# EAGLE library part 5036_006_2?_862 (library con-kyocera-elco)
SIM Card Module Source: http://www.kyocera-elco.com/prdct/pdf/5036.pdf
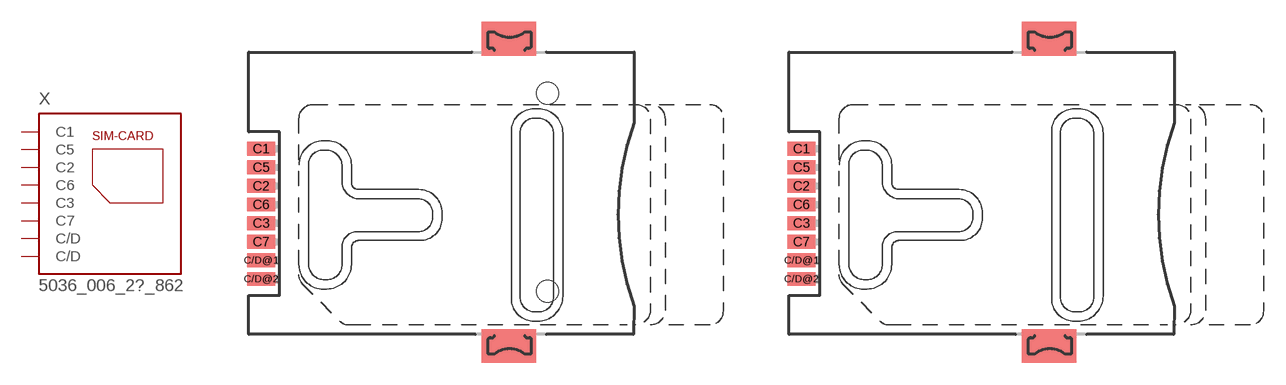
[diagram p1: symbol with the pads of 5036_006_200_862; footprints 5036_006_200_862, 5036_006_201_862]

Designator prefix X

## 5036_006_200_862 (OC_FARNELL: unknown; OC_NEWARK: unknown)  [5036_006_200_862]
C1  C1  pas
C2  C2  pas
C3  C3  pas
C5  C5  pas
C6  C6  pas
C7  C7  pas
C/D@1  C/D  pas
C/D@2  C/D  pas

## 5036_006_201_862 (OC_FARNELL: unknown; OC_NEWARK: unknown)  [5036_006_201_862]
Pads as for 5036_006_200_862

## 5036_006_299_862 (OC_FARNELL: unknown; OC_NEWARK: unknown)  [5036_006_299_862]
Pads as for 5036_006_200_862

## Footprint 5036_006_200_862 (pad centres in mm)
SIM Card Module Source: http://www.kyocera-elco.com/prdct/pdf/5036.pdf
smd 1.9 x 0.95: C1 -19.55,2.98; C2 -19.55,0.44; C3 -19.55,-2.1; C5 -19.55,1.71; C6 -19.55,-0.83; C7 -19.55,-3.37; C/D@1 -19.55,-4.64; C/D@2 -19.55,-5.91
hole 1.5 at 0,6.76
hole 1.5 at 0,-6.76

## Footprint 5036_006_201_862 (pad centres in mm)
SIM Card Module Source: http://www.kyocera-elco.com/prdct/pdf/5036.pdf
smd 1.9 x 0.95: C1 -19.55,2.98; C2 -19.55,0.44; C3 -19.55,-2.1; C5 -19.55,1.71; C6 -19.55,-0.83; C7 -19.55,-3.37; C/D@1 -19.55,-4.64; C/D@2 -19.55,-5.91

## Footprint 5036_006_299_862 (pad centres in mm)
SIM Card Module Source: http://www.kyocera-elco.com/prdct/pdf/5036.pdf
smd 1.9 x 0.95: C1 -19.55,2.98; C2 -19.55,0.44; C3 -19.55,-2.1; C5 -19.55,1.71; C6 -19.55,-0.83; C7 -19.55,-3.37; C/D@1 -19.55,-4.64; C/D@2 -19.55,-5.91
hole 1.5 at 0,7.77
hole 1.5 at 0,-7.77